# Altium footprint library cap 100uF.PcbLib: 1 footprints
Each footprint in its own frame and in the unit in brackets; x right, y up, seen from the top. Pads: shape width x height; smd on the part's side, far side on the other; paste and mask are expansions set on the pad; w line width, h text height; cw(c..) or ccw(c..) is an arc to the next point about the centre after c.
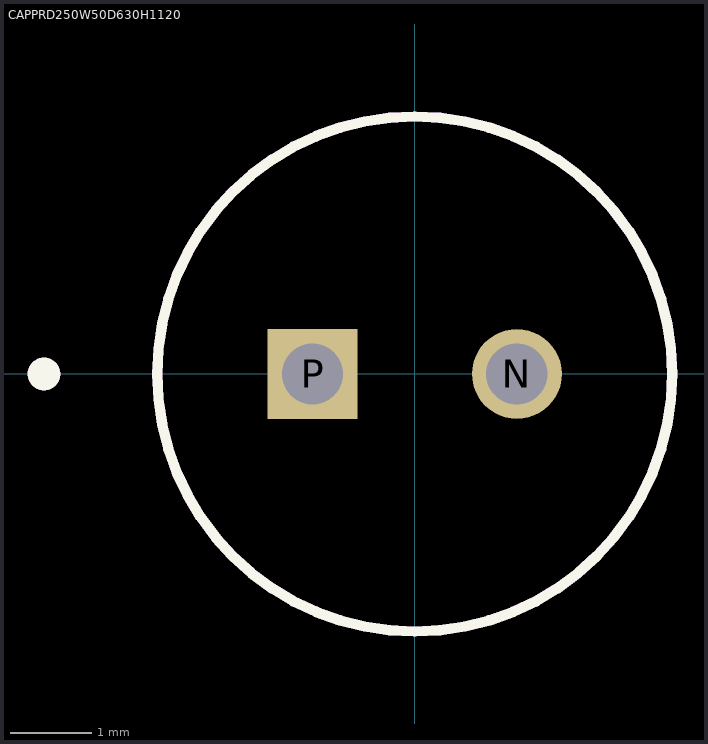
[diagram p0: the footprint, top view; thin cyan lines are the x and y axes]

## CAPPRD250W50D630H1120 [mm]
pads (2):
  round 1.1 hole 0.75: N(1.25,0)
  rect 1.1x1.1 hole 0.75: P(-1.25,0)
Top Overlay:
  circle w0.127: c0,0 r3.15
  lines w0.2: -4.437,0.021 ccw(c-4.535,0) -4.435,0
Mechanical 13:
  circle w0.2: c-4.535,0 r0.1
  circle w0.127: c0,0 r3.15
3D body "step_temp.STEP": height 11.2, standoff -17, extent -3.15,-3.149 3.15,3.149